# EAGLE library part MPU6050 (library xess)
Invensense MPU6050 Invensense 6-Axis Gyro/Accelerometer.
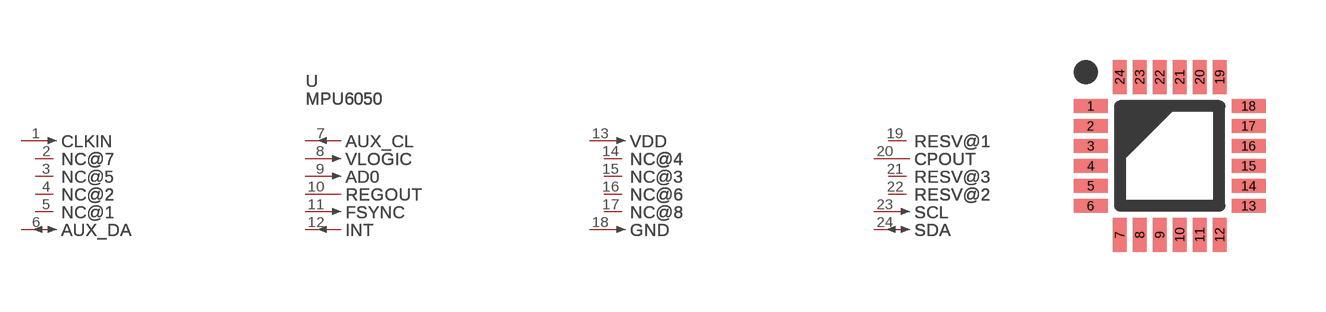
[diagram p161: symbol with the pads of INVENSENSE-24_QFN; footprint INVENSENSE-24_QFN]

Designator prefix U; gates PART=PV_GATE CLKIN=PIN_GATE_IN NC@7=PIN_GATE_NC NC@5=PIN_GATE_NC NC@2=PIN_GATE_NC NC@1=PIN_GATE_NC AUX_DA=PIN_GATE_IO AUX_CL=PIN_GATE_OUT VLOGIC=PIN_GATE_IN AD0=PIN_GATE_IN REGOUT=PIN_GATE_PAS FSYNC=PIN_GATE_IN INT=PIN_GATE_OUT VDD=PIN_GATE_IN NC@4=PIN_GATE_NC NC@3=PIN_GATE_NC NC@6=PIN_GATE_NC NC@8=PIN_GATE_NC GND=PIN_GATE_IN RESV@1=PIN_GATE_NC CPOUT=PIN_GATE_PAS RESV@3=PIN_GATE_NC RESV@2=PIN_GATE_NC SCL=PIN_GATE_IN SDA=PIN_GATE_IO

## MPU6050-QFN24 (DIGIKEY#: 1428-1007-1-ND; MANF: InvenSense; MANF#: MPU-6050)  [INVENSENSE-24_QFN]
1  CLKIN:1  in
2  NC@7:1  nc
3  NC@5:1  nc
4  NC@2:1  nc
5  NC@1:1  nc
6  AUX_DA:1
7  AUX_CL:1  out
8  VLOGIC:1  in
9  AD0:1  in
10  REGOUT:1  pas
11  FSYNC:1  in
12  INT:1  out
13  VDD:1  in
14  NC@4:1  nc
15  NC@3:1  nc
16  NC@6:1  nc
17  NC@8:1  nc
18  GND:1  in
19  RESV@1:1  nc
20  CPOUT:1  pas
21  RESV@3:1  nc
22  RESV@2:1  nc
23  SCL:1  in
24  SDA:1

## Footprint INVENSENSE-24_QFN (pad centres in mm)
Invensense 24-Lead QFN Package
smd 0.85 x 0.34: 1 0.025,0; 2 0.025,-0.5; 3 0.025,-1; 4 0.025,-1.5; 5 0.025,-2; 6 0.025,-2.5; 13 3.975,-2.5; 14 3.975,-2; 15 3.975,-1.5; 16 3.975,-1; 17 3.975,-0.5; 18 3.975,0
smd 0.34 x 0.85: 7 0.75,-3.225; 8 1.25,-3.225; 9 1.75,-3.225; 10 2.25,-3.225; 11 2.75,-3.225; 12 3.25,-3.225; 19 3.25,0.725; 20 2.75,0.725; 21 2.25,0.725; 22 1.75,0.725; 23 1.25,0.725; 24 0.75,0.725